# Altium schematic symbol library ArduinoMiniPro.SchLib: 1 symbol
Pins are listed as number, name and electrical type; pins without a type are passive.

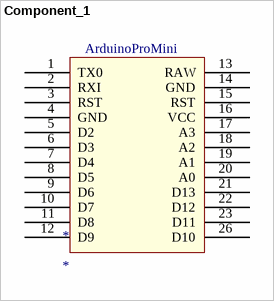
[diagram p0: symbol Component_1]

## Component_1
designator *
pins: 1 TX0, 2 RXI, 3 RST, 4 GND, 5 D2, 6 D3, 7 D4, 8 D5, 9 D6, 10 D7, 11 D8, 12 D9, 13 RAW, 14 GND, 15 RST, 16 VCC, 17 A3, 18 A2, 19 A1, 20 A0, 21 D13, 22 D12, 23 D11, 26 D10
text: ArduinoProMini